# Altium integrated library NSC LDO.IntLib: 1228 symbols (part 27 of 28)
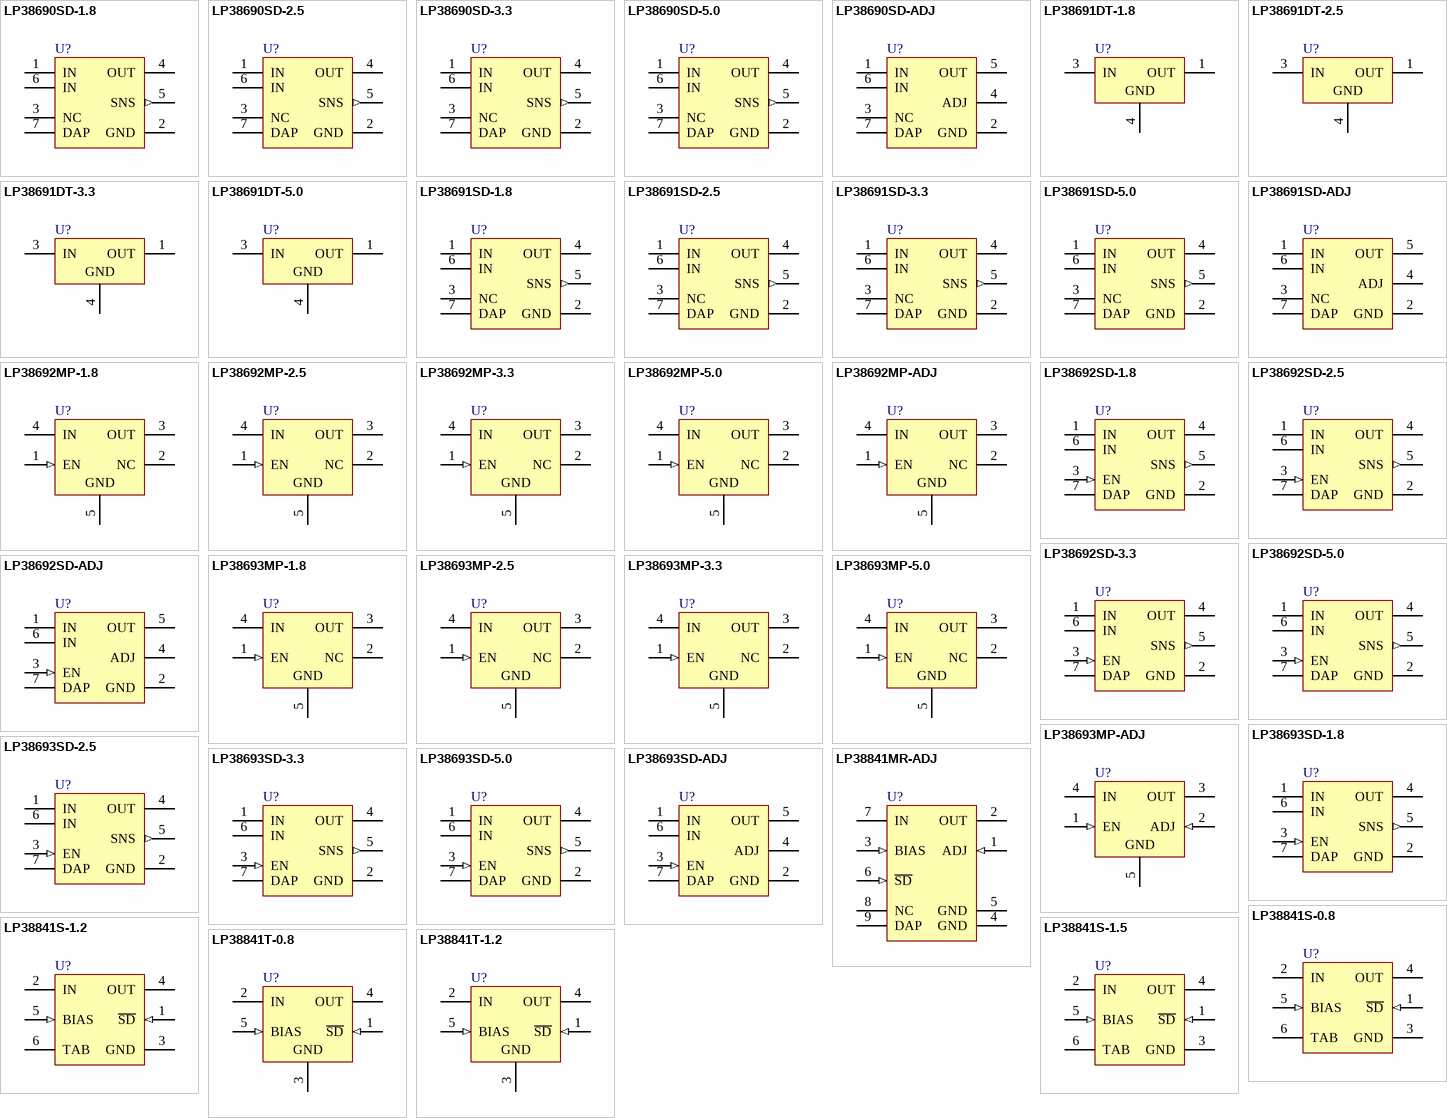
[diagram p56: symbols LP38690SD-1.8 to LP38841T-1.2]

## LP38691DT-3.3
designator U?
500mA Low Dropout CMOS Linear Regulators; PartNumber: LP38691DT-3.3; Manufacturer: National Semiconductor; CompType: LDO IC; PackageTopMarking: NSUZXYTT*LP38691*DT-3.3; PowerWise: Y; Published: 4-Dec-2008; DatasheetVersion: Sep-2005; PackageVersion: revC, Apr-2003; PackageReference: TD03B; Publisher: Altium Limited; PackageDescription: TO252, Molded, Jedec, 6.8 x 6.10 x 2.30mm Body, 3 Lead, 2.28mm Pitch, Surface Mount; RoHS: Y; PinCount: 3; DigiKeyPartNumber: LP38691DT-3.3-ND; Code_JEDEC: TO-252-AA; ComponentLink1Description: LP38691 Datasheet; ComponentLink1URL: http://www.national.com/ds/LP/LP38691.pdf; ComponentLink2Description: LP38691 Web Page; ComponentLink2URL: http://www.national.com/pf/LP/LP38691.html; ComponentLink3Description: TD03B Package Page; ComponentLink3URL: http://www.national.com/packaging/folders/td03b.html
footprint TD03B_N (D-PAK, 4-Leads, Body 6.1x6.6mm, Pitch 2.29mm, Lead Span 9.7mm, IPC Medium Density)
footprint TD03B_L (D-PAK, 4-Leads, Body 6.1x6.6mm, Pitch 2.29mm, Lead Span 9.7mm, IPC High Density)
footprint TD03B_M (D-PAK, 4-Leads, Body 6.1x6.6mm, Pitch 2.29mm, Lead Span 9.7mm, IPC Low Density)
pins: 1 OUT (power), 3 IN (power), 4 GND (power)

## LP38691DT-5.0
designator U?
500mA Low Dropout CMOS Linear Regulators; PartNumber: LP38691DT-5.0; Manufacturer: National Semiconductor; CompType: LDO IC; PackageTopMarking: NSUZXYTT*LP38691*DT-5.0; PowerWise: Y; Published: 4-Dec-2008; DatasheetVersion: Sep-2005; PackageVersion: revC, Apr-2003; PackageReference: TD03B; Publisher: Altium Limited; PackageDescription: TO252, Molded, Jedec, 6.8 x 6.10 x 2.30mm Body, 3 Lead, 2.28mm Pitch, Surface Mount; RoHS: Y; PinCount: 3; DigiKeyPartNumber: LP38691DT-5.0-ND; Code_JEDEC: TO-252-AA; ComponentLink1Description: LP38691 Datasheet; ComponentLink1URL: http://www.national.com/ds/LP/LP38691.pdf; ComponentLink2Description: LP38691 Web Page; ComponentLink2URL: http://www.national.com/pf/LP/LP38691.html; ComponentLink3Description: TD03B Package Page; ComponentLink3URL: http://www.national.com/packaging/folders/td03b.html
footprint TD03B_N (D-PAK, 4-Leads, Body 6.1x6.6mm, Pitch 2.29mm, Lead Span 9.7mm, IPC Medium Density)
footprint TD03B_L (D-PAK, 4-Leads, Body 6.1x6.6mm, Pitch 2.29mm, Lead Span 9.7mm, IPC High Density)
footprint TD03B_M (D-PAK, 4-Leads, Body 6.1x6.6mm, Pitch 2.29mm, Lead Span 9.7mm, IPC Low Density)
pins: 1 OUT (power), 3 IN (power), 4 GND (power)

## LP38691SD-1.8
designator U?
500mA Low Dropout CMOS Linear Regulators; PartNumber: LP38691SD-1.8; Manufacturer: National Semiconductor; CompType: LDO IC; PackageTopMarking: ZXYTT*L118B; PowerWise: Y; Published: 4-Dec-2008; DatasheetVersion: Sep-2005; PackageVersion: revA, Jul-2003; PackageReference: SDE06A; Publisher: Altium Limited; PackageDescription: LLP, Plastic, Dual, 3 x 3 x 0.8mm Body, 6 Lead, 0.95mm Pitch, No Pullback; RoHS: Y; PinCount: 6; DigiKeyPartNumber: LP38691SD-1.8CT-ND; ComponentLink1Description: LP38691 Datasheet; ComponentLink1URL: http://www.national.com/ds/LP/LP38691.pdf; ComponentLink2Description: LP38691 Web Page; ComponentLink2URL: http://www.national.com/pf/LP/LP38691.html; ComponentLink3Description: SDE06A Package Page; ComponentLink3URL: http://www.national.com/packaging/folders/sde06a.html
footprint SDE06A_full (SON, 6-Leads, Body 3x3 mm, Pitch 0.95mm, Full Paste, NSC Recommended)
footprint SDE06A_quad (SON, 6-Leads, Body 3x3 mm, Pitch 0.95mm, Quad Paste, NSC Recommended)
pins: 1 IN (power), 2 GND (power), 3 NC, 4 OUT (power), 5 SNS (out), 6 IN (power), 7 DAP (power)

## LP38691SD-2.5
designator U?
500mA Low Dropout CMOS Linear Regulators; PartNumber: LP38691SD-2.5; Manufacturer: National Semiconductor; CompType: LDO IC; PackageTopMarking: ZXYTT*L119B; PowerWise: Y; Published: 4-Dec-2008; DatasheetVersion: Sep-2005; PackageVersion: revA, Jul-2003; PackageReference: SDE06A; Publisher: Altium Limited; PackageDescription: LLP, Plastic, Dual, 3 x 3 x 0.8mm Body, 6 Lead, 0.95mm Pitch, No Pullback; RoHS: Y; PinCount: 6; DigiKeyPartNumber: LP38691SD-2.5CT-ND; ComponentLink1Description: LP38691 Datasheet; ComponentLink1URL: http://www.national.com/ds/LP/LP38691.pdf; ComponentLink2Description: LP38691 Web Page; ComponentLink2URL: http://www.national.com/pf/LP/LP38691.html; ComponentLink3Description: SDE06A Package Page; ComponentLink3URL: http://www.national.com/packaging/folders/sde06a.html
footprint SDE06A_full (SON, 6-Leads, Body 3x3 mm, Pitch 0.95mm, Full Paste, NSC Recommended)
footprint SDE06A_quad (SON, 6-Leads, Body 3x3 mm, Pitch 0.95mm, Quad Paste, NSC Recommended)
pins: 1 IN (power), 2 GND (power), 3 NC, 4 OUT (power), 5 SNS (out), 6 IN (power), 7 DAP (power)

## LP38691SD-3.3
designator U?
500mA Low Dropout CMOS Linear Regulators; PartNumber: LP38691SD-3.3; Manufacturer: National Semiconductor; CompType: LDO IC; PackageTopMarking: ZXYTT*L120B; PowerWise: Y; Published: 4-Dec-2008; DatasheetVersion: Sep-2005; PackageVersion: revA, Jul-2003; PackageReference: SDE06A; Publisher: Altium Limited; PackageDescription: LLP, Plastic, Dual, 3 x 3 x 0.8mm Body, 6 Lead, 0.95mm Pitch, No Pullback; RoHS: Y; PinCount: 6; DigiKeyPartNumber: LP38691SD-3.3CT-ND; ComponentLink1Description: LP38691 Datasheet; ComponentLink1URL: http://www.national.com/ds/LP/LP38691.pdf; ComponentLink2Description: LP38691 Web Page; ComponentLink2URL: http://www.national.com/pf/LP/LP38691.html; ComponentLink3Description: SDE06A Package Page; ComponentLink3URL: http://www.national.com/packaging/folders/sde06a.html
footprint SDE06A_full (SON, 6-Leads, Body 3x3 mm, Pitch 0.95mm, Full Paste, NSC Recommended)
footprint SDE06A_quad (SON, 6-Leads, Body 3x3 mm, Pitch 0.95mm, Quad Paste, NSC Recommended)
pins: 1 IN (power), 2 GND (power), 3 NC, 4 OUT (power), 5 SNS (out), 6 IN (power), 7 DAP (power)

## LP38691SD-5.0
designator U?
500mA Low Dropout CMOS Linear Regulators; PartNumber: LP38691SD-5.0; Manufacturer: National Semiconductor; CompType: LDO IC; PackageTopMarking: ZXYTT*L121B; PowerWise: Y; Published: 4-Dec-2008; DatasheetVersion: Sep-2005; PackageVersion: revA, Jul-2003; PackageReference: SDE06A; Publisher: Altium Limited; PackageDescription: LLP, Plastic, Dual, 3 x 3 x 0.8mm Body, 6 Lead, 0.95mm Pitch, No Pullback; RoHS: O; PinCount: 6; DigiKeyPartNumber: LP38691SD-5.0CT-ND; ComponentLink1Description: LP38691 Datasheet; ComponentLink1URL: http://www.national.com/ds/LP/LP38691.pdf; ComponentLink2Description: LP38691 Web Page; ComponentLink2URL: http://www.national.com/pf/LP/LP38691.html; ComponentLink3Description: SDE06A Package Page; ComponentLink3URL: http://www.national.com/packaging/folders/sde06a.html
footprint SDE06A_full (SON, 6-Leads, Body 3x3 mm, Pitch 0.95mm, Full Paste, NSC Recommended)
footprint SDE06A_quad (SON, 6-Leads, Body 3x3 mm, Pitch 0.95mm, Quad Paste, NSC Recommended)
pins: 1 IN (power), 2 GND (power), 3 NC, 4 OUT (power), 5 SNS (out), 6 IN (power), 7 DAP (power)

## LP38691SD-ADJ
designator U?
500mA Low Dropout CMOS Linear Regulators; PartNumber: LP38691SD-ADJ; Manufacturer: National Semiconductor; CompType: LDO IC; PackageTopMarking: ZXYTT*L117B; PowerWise: Y; Published: 4-Dec-2008; DatasheetVersion: Sep-2005; PackageVersion: revA, Jul-2003; PackageReference: SDE06A; Publisher: Altium Limited; PackageDescription: LLP, Plastic, Dual, 3 x 3 x 0.8mm Body, 6 Lead, 0.95mm Pitch, No Pullback; RoHS: O; PinCount: 6; DigiKeyPartNumber: LP38691SD-ADJCT-ND; ComponentLink1Description: LP38691-ADJ Datasheet; ComponentLink1URL: http://www.national.com/ds/LP/LP38691-ADJ.pdf; ComponentLink2Description: LP38691-ADJ Web Page; ComponentLink2URL: http://www.national.com/pf/LP/LP38691-ADJ.html; ComponentLink3Description: SDE06A Package Page; ComponentLink3URL: http://www.national.com/packaging/folders/sde06a.html
footprint SDE06A_full (SON, 6-Leads, Body 3x3 mm, Pitch 0.95mm, Full Paste, NSC Recommended)
footprint SDE06A_quad (SON, 6-Leads, Body 3x3 mm, Pitch 0.95mm, Quad Paste, NSC Recommended)
pins: 1 IN (power), 2 GND (power), 3 NC, 4 ADJ, 5 OUT (power), 6 IN (power), 7 DAP (power)

## LP38692MP-1.8
designator U?
1A Low Dropout CMOS Linear Regulators; PartNumber: LP38692MP-1.8; Manufacturer: National Semiconductor; CompType: LDO IC; PackageTopMarking: XYTT*LJPB; PowerWise: Y; Published: 4-Dec-2008; DatasheetVersion: May-2005; PackageVersion: revA, Jan-2000; PackageReference: MP05A; Publisher: Altium Limited; PackageDescription: Moldec SOT-223, 6.50 x 3.56 x 1.6mm Body, 5 Lead, 1.5mm Pitch; RoHS: Y; PinCount: 5; DigiKeyPartNumber: LP38692MP-1.8CT-ND; Code_JEDEC: TO-261-AB; Code_IPC: SOT223-5; ComponentLink1Description: LP38692 Datasheet; ComponentLink1URL: http://www.national.com/ds/LP/LP38692.pdf; ComponentLink2Description: LP38692 Web Page; ComponentLink2URL: http://www.national.com/pf/LP/LP38692.html; ComponentLink3Description: MP05A Package Page; ComponentLink3URL: http://www.national.com/packaging/folders/mp05a.html
footprint MP05A_N (SOT223, 5-Leads, Body 6.5x3.5mm, Pitch 1.5mm, Lead Span 7mm, IPC Medium Density)
footprint MP05A_L (SOT223, 5-Leads, Body 6.5x3.5mm, Pitch 1.5mm, Lead Span 7mm, IPC High Density)
footprint MP05A_M (SOT223, 5-Leads, Body 6.5x3.5mm, Pitch 1.5mm, Lead Span 7mm, IPC Low Density)
pins: 1 EN (in), 2 NC, 3 OUT (power), 4 IN (power), 5 GND (power)

## LP38692MP-2.5
designator U?
1A Low Dropout CMOS Linear Regulators; PartNumber: LP38692MP-2.5; Manufacturer: National Semiconductor; CompType: LDO IC; PackageTopMarking: XYTT*LJRB; PowerWise: Y; Published: 4-Dec-2008; DatasheetVersion: May-2005; PackageVersion: revA, Jan-2000; PackageReference: MP05A; Publisher: Altium Limited; PackageDescription: Moldec SOT-223, 6.50 x 3.56 x 1.6mm Body, 5 Lead, 1.5mm Pitch; RoHS: O; PinCount: 5; DigiKeyPartNumber: LP38692MP-2.5CT-ND; Code_JEDEC: TO-261-AB; Code_IPC: SOT223-5; ComponentLink1Description: LP38692 Datasheet; ComponentLink1URL: http://www.national.com/ds/LP/LP38692.pdf; ComponentLink2Description: LP38692 Web Page; ComponentLink2URL: http://www.national.com/pf/LP/LP38692.html; ComponentLink3Description: MP05A Package Page; ComponentLink3URL: http://www.national.com/packaging/folders/mp05a.html
footprint MP05A_N (SOT223, 5-Leads, Body 6.5x3.5mm, Pitch 1.5mm, Lead Span 7mm, IPC Medium Density)
footprint MP05A_L (SOT223, 5-Leads, Body 6.5x3.5mm, Pitch 1.5mm, Lead Span 7mm, IPC High Density)
footprint MP05A_M (SOT223, 5-Leads, Body 6.5x3.5mm, Pitch 1.5mm, Lead Span 7mm, IPC Low Density)
pins: 1 EN (in), 2 NC, 3 OUT (power), 4 IN (power), 5 GND (power)

## LP38692MP-3.3
designator U?
1A Low Dropout CMOS Linear Regulators; PartNumber: LP38692MP-3.3; Manufacturer: National Semiconductor; CompType: LDO IC; PackageTopMarking: XYTT*LJSB; PowerWise: Y; Published: 4-Dec-2008; DatasheetVersion: May-2005; PackageVersion: revA, Jan-2000; PackageReference: MP05A; Publisher: Altium Limited; PackageDescription: Moldec SOT-223, 6.50 x 3.56 x 1.6mm Body, 5 Lead, 1.5mm Pitch; RoHS: Y; PinCount: 5; DigiKeyPartNumber: LP38692MP-3.3CT-ND; Code_JEDEC: TO-261-AB; Code_IPC: SOT223-5; ComponentLink1Description: LP38692 Datasheet; ComponentLink1URL: http://www.national.com/ds/LP/LP38692.pdf; ComponentLink2Description: LP38692 Web Page; ComponentLink2URL: http://www.national.com/pf/LP/LP38692.html; ComponentLink3Description: MP05A Package Page; ComponentLink3URL: http://www.national.com/packaging/folders/mp05a.html
footprint MP05A_N (SOT223, 5-Leads, Body 6.5x3.5mm, Pitch 1.5mm, Lead Span 7mm, IPC Medium Density)
footprint MP05A_L (SOT223, 5-Leads, Body 6.5x3.5mm, Pitch 1.5mm, Lead Span 7mm, IPC High Density)
footprint MP05A_M (SOT223, 5-Leads, Body 6.5x3.5mm, Pitch 1.5mm, Lead Span 7mm, IPC Low Density)
pins: 1 EN (in), 2 NC, 3 OUT (power), 4 IN (power), 5 GND (power)

## LP38692MP-5.0
designator U?
1A Low Dropout CMOS Linear Regulators; PartNumber: LP38692MP-5.0; Manufacturer: National Semiconductor; CompType: LDO IC; PackageTopMarking: XYTT*LJTB; PowerWise: Y; Published: 4-Dec-2008; DatasheetVersion: May-2005; PackageVersion: revA, Jan-2000; PackageReference: MP05A; Publisher: Altium Limited; PackageDescription: Moldec SOT-223, 6.50 x 3.56 x 1.6mm Body, 5 Lead, 1.5mm Pitch; RoHS: O; PinCount: 5; DigiKeyPartNumber: LP38692MP-5.0CT-ND; Code_JEDEC: TO-261-AB; Code_IPC: SOT223-5; ComponentLink1Description: LP38692 Datasheet; ComponentLink1URL: http://www.national.com/ds/LP/LP38692.pdf; ComponentLink2Description: LP38692 Web Page; ComponentLink2URL: http://www.national.com/pf/LP/LP38692.html; ComponentLink3Description: MP05A Package Page; ComponentLink3URL: http://www.national.com/packaging/folders/mp05a.html
footprint MP05A_N (SOT223, 5-Leads, Body 6.5x3.5mm, Pitch 1.5mm, Lead Span 7mm, IPC Medium Density)
footprint MP05A_L (SOT223, 5-Leads, Body 6.5x3.5mm, Pitch 1.5mm, Lead Span 7mm, IPC High Density)
footprint MP05A_M (SOT223, 5-Leads, Body 6.5x3.5mm, Pitch 1.5mm, Lead Span 7mm, IPC Low Density)
pins: 1 EN (in), 2 NC, 3 OUT (power), 4 IN (power), 5 GND (power)

## LP38692MP-ADJ
designator U?
1A Low Dropout CMOS Linear Regulators; PartNumber: LP38692MP-ADJ; Manufacturer: National Semiconductor; CompType: LDO IC; PackageTopMarking: XYTT*LJNB; PowerWise: Y; Published: 4-Dec-2008; DatasheetVersion: Jan-2005; PackageVersion: revA, Jan-2000; PackageReference: MP05A; Publisher: Altium Limited; PackageDescription: Moldec SOT-223, 6.50 x 3.56 x 1.6mm Body, 5 Lead, 1.5mm Pitch; RoHS: Y; PinCount: 5; DigiKeyPartNumber: LP38692MP-ADJCT-ND; Code_JEDEC: TO-261-AB; Code_IPC: SOT223-5; ComponentLink1Description: LP38692-ADJ Datasheet; ComponentLink1URL: http://www.national.com/ds/LP/LP38692-ADJ.pdf; ComponentLink2Description: LP38692-ADJ Web Page; ComponentLink2URL: http://www.national.com/pf/LP/LP38692-ADJ.html; ComponentLink3Description: MP05A Package Page; ComponentLink3URL: http://www.national.com/packaging/folders/mp05a.html
footprint MP05A_N (SOT223, 5-Leads, Body 6.5x3.5mm, Pitch 1.5mm, Lead Span 7mm, IPC Medium Density)
footprint MP05A_L (SOT223, 5-Leads, Body 6.5x3.5mm, Pitch 1.5mm, Lead Span 7mm, IPC High Density)
footprint MP05A_M (SOT223, 5-Leads, Body 6.5x3.5mm, Pitch 1.5mm, Lead Span 7mm, IPC Low Density)
pins: 1 EN (in), 2 NC, 3 OUT (power), 4 IN (power), 5 GND (power)

## LP38692SD-1.8
designator U?
1A Low Dropout CMOS Linear Regulators; PartNumber: LP38692SD-1.8; Manufacturer: National Semiconductor; CompType: LDO IC; PackageTopMarking: ZXYTT*L123B; PowerWise: Y; Published: 4-Dec-2008; DatasheetVersion: May-2005; PackageVersion: revA, Jul-2003; PackageReference: SDE06A; Publisher: Altium Limited; PackageDescription: LLP, Plastic, Dual, 3 x 3 x 0.8mm Body, 6 Lead, 0.95mm Pitch, No Pullback; RoHS: Y; PinCount: 6; DigiKeyPartNumber: LP38692SD-1.8CT-ND; ComponentLink1Description: LP38692 Datasheet; ComponentLink1URL: http://www.national.com/ds/LP/LP38692.pdf; ComponentLink2Description: LP38692 Web Page; ComponentLink2URL: http://www.national.com/pf/LP/LP38692.html; ComponentLink3Description: SDE06A Package Page; ComponentLink3URL: http://www.national.com/packaging/folders/sde06a.html
footprint SDE06A_full (SON, 6-Leads, Body 3x3 mm, Pitch 0.95mm, Full Paste, NSC Recommended)
footprint SDE06A_quad (SON, 6-Leads, Body 3x3 mm, Pitch 0.95mm, Quad Paste, NSC Recommended)
pins: 1 IN (power), 2 GND (power), 3 EN (in), 4 OUT (power), 5 SNS (out), 6 IN (power), 7 DAP (power)

## LP38692SD-2.5
designator U?
1A Low Dropout CMOS Linear Regulators; PartNumber: LP38692SD-2.5; Manufacturer: National Semiconductor; CompType: LDO IC; PackageTopMarking: ZXYTT*L124B; PowerWise: Y; Published: 4-Dec-2008; DatasheetVersion: May-2005; PackageVersion: revA, Jul-2003; PackageReference: SDE06A; Publisher: Altium Limited; PackageDescription: LLP, Plastic, Dual, 3 x 3 x 0.8mm Body, 6 Lead, 0.95mm Pitch, No Pullback; RoHS: Y; PinCount: 6; DigiKeyPartNumber: LP38692SD-2.5CT-ND; ComponentLink1Description: LP38692 Datasheet; ComponentLink1URL: http://www.national.com/ds/LP/LP38692.pdf; ComponentLink2Description: LP38692 Web Page; ComponentLink2URL: http://www.national.com/pf/LP/LP38692.html; ComponentLink3Description: SDE06A Package Page; ComponentLink3URL: http://www.national.com/packaging/folders/sde06a.html
footprint SDE06A_full (SON, 6-Leads, Body 3x3 mm, Pitch 0.95mm, Full Paste, NSC Recommended)
footprint SDE06A_quad (SON, 6-Leads, Body 3x3 mm, Pitch 0.95mm, Quad Paste, NSC Recommended)
pins: 1 IN (power), 2 GND (power), 3 EN (in), 4 OUT (power), 5 SNS (out), 6 IN (power), 7 DAP (power)

## LP38692SD-3.3
designator U?
1A Low Dropout CMOS Linear Regulators; PartNumber: LP38692SD-3.3; Manufacturer: National Semiconductor; CompType: LDO IC; PackageTopMarking: ZXYTT*L125B; PowerWise: Y; Published: 4-Dec-2008; DatasheetVersion: May-2005; PackageVersion: revA, Jul-2003; PackageReference: SDE06A; Publisher: Altium Limited; PackageDescription: LLP, Plastic, Dual, 3 x 3 x 0.8mm Body, 6 Lead, 0.95mm Pitch, No Pullback; RoHS: Y; PinCount: 6; DigiKeyPartNumber: LP38692SD-3.3CT-ND; ComponentLink1Description: LP38692 Datasheet; ComponentLink1URL: http://www.national.com/ds/LP/LP38692.pdf; ComponentLink2Description: LP38692 Web Page; ComponentLink2URL: http://www.national.com/pf/LP/LP38692.html; ComponentLink3Description: SDE06A Package Page; ComponentLink3URL: http://www.national.com/packaging/folders/sde06a.html
footprint SDE06A_full (SON, 6-Leads, Body 3x3 mm, Pitch 0.95mm, Full Paste, NSC Recommended)
footprint SDE06A_quad (SON, 6-Leads, Body 3x3 mm, Pitch 0.95mm, Quad Paste, NSC Recommended)
pins: 1 IN (power), 2 GND (power), 3 EN (in), 4 OUT (power), 5 SNS (out), 6 IN (power), 7 DAP (power)

## LP38692SD-5.0
designator U?
1A Low Dropout CMOS Linear Regulators; PartNumber: LP38692SD-5.0; Manufacturer: National Semiconductor; CompType: LDO IC; PackageTopMarking: ZXYTT*L126B; PowerWise: Y; Published: 4-Dec-2008; DatasheetVersion: May-2005; PackageVersion: revA, Jul-2003; PackageReference: SDE06A; Publisher: Altium Limited; PackageDescription: LLP, Plastic, Dual, 3 x 3 x 0.8mm Body, 6 Lead, 0.95mm Pitch, No Pullback; RoHS: Y; PinCount: 6; DigiKeyPartNumber: LP38692SD-5.0CT-ND; ComponentLink1Description: LP38692 Datasheet; ComponentLink1URL: http://www.national.com/ds/LP/LP38692.pdf; ComponentLink2Description: LP38692 Web Page; ComponentLink2URL: http://www.national.com/pf/LP/LP38692.html; ComponentLink3Description: SDE06A Package Page; ComponentLink3URL: http://www.national.com/packaging/folders/sde06a.html
footprint SDE06A_full (SON, 6-Leads, Body 3x3 mm, Pitch 0.95mm, Full Paste, NSC Recommended)
footprint SDE06A_quad (SON, 6-Leads, Body 3x3 mm, Pitch 0.95mm, Quad Paste, NSC Recommended)
pins: 1 IN (power), 2 GND (power), 3 EN (in), 4 OUT (power), 5 SNS (out), 6 IN (power), 7 DAP (power)

## LP38692SD-ADJ
designator U?
1A Low Dropout CMOS Linear Regulators; PartNumber: LP38692SD-ADJ; Manufacturer: National Semiconductor; CompType: LDO IC; PackageTopMarking: ZXYTT*L122B; PowerWise: Y; Published: 4-Dec-2008; DatasheetVersion: Jan-2005; PackageVersion: revA, Jul-2003; PackageReference: SDE06A; Publisher: Altium Limited; PackageDescription: LLP, Plastic, Dual, 3 x 3 x 0.8mm Body, 6 Lead, 0.95mm Pitch, No Pullback; RoHS: Y; PinCount: 6; DigiKeyPartNumber: LP38692SD-ADJCT-ND; ComponentLink1Description: LP38692-ADJ Datasheet; ComponentLink1URL: http://www.national.com/ds/LP/LP38692-ADJ.pdf; ComponentLink2Description: LP38692-ADJ Web Page; ComponentLink2URL: http://www.national.com/pf/LP/LP38692-ADJ.html; ComponentLink3Description: SDE06A Package Page; ComponentLink3URL: http://www.national.com/packaging/folders/sde06a.html
footprint SDE06A_full (SON, 6-Leads, Body 3x3 mm, Pitch 0.95mm, Full Paste, NSC Recommended)
footprint SDE06A_quad (SON, 6-Leads, Body 3x3 mm, Pitch 0.95mm, Quad Paste, NSC Recommended)
pins: 1 IN (power), 2 GND (power), 3 EN (in), 4 ADJ, 5 OUT (power), 6 IN (power), 7 DAP (power)

## LP38693MP-1.8
designator U?
500mA Low Dropout CMOS Linear Regulators; PartNumber: LP38693MP-1.8; Manufacturer: National Semiconductor; CompType: LDO IC; PackageTopMarking: XYTT*LJVB; PowerWise: Y; Published: 4-Dec-2008; DatasheetVersion: Sep-2005; PackageVersion: revA, Jan-2000; PackageReference: MP05A; Publisher: Altium Limited; PackageDescription: Moldec SOT-223, 6.50 x 3.56 x 1.6mm Body, 5 Lead, 1.5mm Pitch; RoHS: Y; PinCount: 5; DigiKeyPartNumber: LP38693MP-1.8CT-ND; Code_JEDEC: TO-261-AB; Code_IPC: SOT223-5; ComponentLink1Description: LP38693 Datasheet; ComponentLink1URL: http://www.national.com/ds/LP/LP38693.pdf; ComponentLink2Description: LP38693 Web Page; ComponentLink2URL: http://www.national.com/pf/LP/LP38693.html; ComponentLink3Description: MP05A Package Page; ComponentLink3URL: http://www.national.com/packaging/folders/mp05a.html
footprint MP05A_N (SOT223, 5-Leads, Body 6.5x3.5mm, Pitch 1.5mm, Lead Span 7mm, IPC Medium Density)
footprint MP05A_L (SOT223, 5-Leads, Body 6.5x3.5mm, Pitch 1.5mm, Lead Span 7mm, IPC High Density)
footprint MP05A_M (SOT223, 5-Leads, Body 6.5x3.5mm, Pitch 1.5mm, Lead Span 7mm, IPC Low Density)
pins: 1 EN (in), 2 NC, 3 OUT (power), 4 IN (power), 5 GND (power)

## LP38693MP-2.5
designator U?
500mA Low Dropout CMOS Linear Regulators; PartNumber: LP38693MP-2.5; Manufacturer: National Semiconductor; CompType: LDO IC; PackageTopMarking: XYTT*LJXB; PowerWise: Y; Published: 4-Dec-2008; DatasheetVersion: Sep-2005; PackageVersion: revA, Jan-2000; PackageReference: MP05A; Publisher: Altium Limited; PackageDescription: Moldec SOT-223, 6.50 x 3.56 x 1.6mm Body, 5 Lead, 1.5mm Pitch; RoHS: Y; PinCount: 5; DigiKeyPartNumber: LP38693MP-2.5CT-ND; Code_JEDEC: TO-261-AB; Code_IPC: SOT223-5; ComponentLink1Description: LP38693 Datasheet; ComponentLink1URL: http://www.national.com/ds/LP/LP38693.pdf; ComponentLink2Description: LP38693 Web Page; ComponentLink2URL: http://www.national.com/pf/LP/LP38693.html; ComponentLink3Description: MP05A Package Page; ComponentLink3URL: http://www.national.com/packaging/folders/mp05a.html
footprint MP05A_N (SOT223, 5-Leads, Body 6.5x3.5mm, Pitch 1.5mm, Lead Span 7mm, IPC Medium Density)
footprint MP05A_L (SOT223, 5-Leads, Body 6.5x3.5mm, Pitch 1.5mm, Lead Span 7mm, IPC High Density)
footprint MP05A_M (SOT223, 5-Leads, Body 6.5x3.5mm, Pitch 1.5mm, Lead Span 7mm, IPC Low Density)
pins: 1 EN (in), 2 NC, 3 OUT (power), 4 IN (power), 5 GND (power)

## LP38693MP-3.3
designator U?
500mA Low Dropout CMOS Linear Regulators; PartNumber: LP38693MP-3.3; Manufacturer: National Semiconductor; CompType: LDO IC; PackageTopMarking: XYTT*LJYB; PowerWise: Y; Published: 4-Dec-2008; DatasheetVersion: Sep-2005; PackageVersion: revA, Jan-2000; PackageReference: MP05A; Publisher: Altium Limited; PackageDescription: Moldec SOT-223, 6.50 x 3.56 x 1.6mm Body, 5 Lead, 1.5mm Pitch; RoHS: O; PinCount: 5; DigiKeyPartNumber: LP38693MP-3.3CT-ND; Code_JEDEC: TO-261-AB; Code_IPC: SOT223-5; ComponentLink1Description: LP38693 Datasheet; ComponentLink1URL: http://www.national.com/ds/LP/LP38693.pdf; ComponentLink2Description: LP38693 Web Page; ComponentLink2URL: http://www.national.com/pf/LP/LP38693.html; ComponentLink3Description: MP05A Package Page; ComponentLink3URL: http://www.national.com/packaging/folders/mp05a.html
footprint MP05A_N (SOT223, 5-Leads, Body 6.5x3.5mm, Pitch 1.5mm, Lead Span 7mm, IPC Medium Density)
footprint MP05A_L (SOT223, 5-Leads, Body 6.5x3.5mm, Pitch 1.5mm, Lead Span 7mm, IPC High Density)
footprint MP05A_M (SOT223, 5-Leads, Body 6.5x3.5mm, Pitch 1.5mm, Lead Span 7mm, IPC Low Density)
pins: 1 EN (in), 2 NC, 3 OUT (power), 4 IN (power), 5 GND (power)

## LP38693MP-5.0
designator U?
500mA Low Dropout CMOS Linear Regulators; PartNumber: LP38693MP-5.0; Manufacturer: National Semiconductor; CompType: LDO IC; PackageTopMarking: XYTT*LJZB; PowerWise: Y; Published: 4-Dec-2008; DatasheetVersion: Sep-2005; PackageVersion: revA, Jan-2000; PackageReference: MP05A; Publisher: Altium Limited; PackageDescription: Moldec SOT-223, 6.50 x 3.56 x 1.6mm Body, 5 Lead, 1.5mm Pitch; RoHS: Y; PinCount: 5; DigiKeyPartNumber: LP38693MP-5.0CT-ND; Code_JEDEC: TO-261-AB; Code_IPC: SOT223-5; ComponentLink1Description: LP38693 Datasheet; ComponentLink1URL: http://www.national.com/ds/LP/LP38693.pdf; ComponentLink2Description: LP38693 Web Page; ComponentLink2URL: http://www.national.com/pf/LP/LP38693.html; ComponentLink3Description: MP05A Package Page; ComponentLink3URL: http://www.national.com/packaging/folders/mp05a.html
footprint MP05A_N (SOT223, 5-Leads, Body 6.5x3.5mm, Pitch 1.5mm, Lead Span 7mm, IPC Medium Density)
footprint MP05A_L (SOT223, 5-Leads, Body 6.5x3.5mm, Pitch 1.5mm, Lead Span 7mm, IPC High Density)
footprint MP05A_M (SOT223, 5-Leads, Body 6.5x3.5mm, Pitch 1.5mm, Lead Span 7mm, IPC Low Density)
pins: 1 EN (in), 2 NC, 3 OUT (power), 4 IN (power), 5 GND (power)

## LP38693MP-ADJ
designator U?
500mA Low Dropout CMOS Linear Regulators; PartNumber: LP38693MP-ADJ; Manufacturer: National Semiconductor; CompType: LDO IC; PackageTopMarking: XYTT*LJUB; PowerWise: Y; Published: 4-Dec-2008; DatasheetVersion: Sep-2005; PackageVersion: revA, Jan-2000; PackageReference: MP05A; Publisher: Altium Limited; PackageDescription: Moldec SOT-223, 6.50 x 3.56 x 1.6mm Body, 5 Lead, 1.5mm Pitch; RoHS: O; PinCount: 5; DigiKeyPartNumber: LP38693MP-ADJCT-ND; Code_JEDEC: TO-261-AB; Code_IPC: SOT223-5; ComponentLink1Description: LP38693-ADJ Datasheet; ComponentLink1URL: http://www.national.com/ds/LP/LP38693-ADJ.pdf; ComponentLink2Description: LP38693-ADJ Web Page; ComponentLink2URL: http://www.national.com/pf/LP/LP38693-ADJ.html; ComponentLink3Description: MP05A Package Page; ComponentLink3URL: http://www.national.com/packaging/folders/mp05a.html
footprint MP05A_N (SOT223, 5-Leads, Body 6.5x3.5mm, Pitch 1.5mm, Lead Span 7mm, IPC Medium Density)
footprint MP05A_L (SOT223, 5-Leads, Body 6.5x3.5mm, Pitch 1.5mm, Lead Span 7mm, IPC High Density)
footprint MP05A_M (SOT223, 5-Leads, Body 6.5x3.5mm, Pitch 1.5mm, Lead Span 7mm, IPC Low Density)
pins: 1 EN (in), 2 ADJ (in), 3 OUT (power), 4 IN (power), 5 GND (power)

## LP38693SD-1.8
designator U?
500mA Low Dropout CMOS Linear Regulators; PartNumber: LP38693SD-1.8; Manufacturer: National Semiconductor; CompType: LDO IC; PackageTopMarking: ZXYTT*L128B; PowerWise: Y; Published: 4-Dec-2008; DatasheetVersion: Sep-2005; PackageVersion: revA, Jul-2003; PackageReference: SDE06A; Publisher: Altium Limited; PackageDescription: LLP, Plastic, Dual, 3 x 3 x 0.8mm Body, 6 Lead, 0.95mm Pitch, No Pullback; RoHS: Y; PinCount: 6; DigiKeyPartNumber: LP38693SD-1.8CT-ND; ComponentLink1Description: LP38693 Datasheet; ComponentLink1URL: http://www.national.com/ds/LP/LP38693.pdf; ComponentLink2Description: LP38693 Web Page; ComponentLink2URL: http://www.national.com/pf/LP/LP38693.html; ComponentLink3Description: SDE06A Package Page; ComponentLink3URL: http://www.national.com/packaging/folders/sde06a.html
footprint SDE06A_full (SON, 6-Leads, Body 3x3 mm, Pitch 0.95mm, Full Paste, NSC Recommended)
footprint SDE06A_quad (SON, 6-Leads, Body 3x3 mm, Pitch 0.95mm, Quad Paste, NSC Recommended)
pins: 1 IN (power), 2 GND (power), 3 EN (in), 4 OUT (power), 5 SNS (out), 6 IN (power), 7 DAP (power)

## LP38693SD-2.5
designator U?
500mA Low Dropout CMOS Linear Regulators; PartNumber: LP38693SD-2.5; Manufacturer: National Semiconductor; CompType: LDO IC; PackageTopMarking: ZXYTT*L129B; PowerWise: Y; Published: 4-Dec-2008; DatasheetVersion: Sep-2005; PackageVersion: revA, Jul-2003; PackageReference: SDE06A; Publisher: Altium Limited; PackageDescription: LLP, Plastic, Dual, 3 x 3 x 0.8mm Body, 6 Lead, 0.95mm Pitch, No Pullback; RoHS: Y; PinCount: 6; DigiKeyPartNumber: LP38693SD-2.5CT-ND; ComponentLink1Description: LP38693 Datasheet; ComponentLink1URL: http://www.national.com/ds/LP/LP38693.pdf; ComponentLink2Description: LP38693 Web Page; ComponentLink2URL: http://www.national.com/pf/LP/LP38693.html; ComponentLink3Description: SDE06A Package Page; ComponentLink3URL: http://www.national.com/packaging/folders/sde06a.html
footprint SDE06A_full (SON, 6-Leads, Body 3x3 mm, Pitch 0.95mm, Full Paste, NSC Recommended)
footprint SDE06A_quad (SON, 6-Leads, Body 3x3 mm, Pitch 0.95mm, Quad Paste, NSC Recommended)
pins: 1 IN (power), 2 GND (power), 3 EN (in), 4 OUT (power), 5 SNS (out), 6 IN (power), 7 DAP (power)

## LP38693SD-3.3
designator U?
500mA Low Dropout CMOS Linear Regulators; PartNumber: LP38693SD-3.3; Manufacturer: National Semiconductor; CompType: LDO IC; PackageTopMarking: ZXYTT*L130B; PowerWise: Y; Published: 4-Dec-2008; DatasheetVersion: Sep-2005; PackageVersion: revA, Jul-2003; PackageReference: SDE06A; Publisher: Altium Limited; PackageDescription: LLP, Plastic, Dual, 3 x 3 x 0.8mm Body, 6 Lead, 0.95mm Pitch, No Pullback; RoHS: Y; PinCount: 6; DigiKeyPartNumber: LP38693SD-3.3CT-ND; ComponentLink1Description: LP38693 Datasheet; ComponentLink1URL: http://www.national.com/ds/LP/LP38693.pdf; ComponentLink2Description: LP38693 Web Page; ComponentLink2URL: http://www.national.com/pf/LP/LP38693.html; ComponentLink3Description: SDE06A Package Page; ComponentLink3URL: http://www.national.com/packaging/folders/sde06a.html
footprint SDE06A_full (SON, 6-Leads, Body 3x3 mm, Pitch 0.95mm, Full Paste, NSC Recommended)
footprint SDE06A_quad (SON, 6-Leads, Body 3x3 mm, Pitch 0.95mm, Quad Paste, NSC Recommended)
pins: 1 IN (power), 2 GND (power), 3 EN (in), 4 OUT (power), 5 SNS (out), 6 IN (power), 7 DAP (power)

## LP38693SD-5.0
designator U?
500mA Low Dropout CMOS Linear Regulators; PartNumber: LP38693SD-5.0; Manufacturer: National Semiconductor; CompType: LDO IC; PackageTopMarking: ZXYTT*L131B; PowerWise: Y; Published: 4-Dec-2008; DatasheetVersion: Sep-2005; PackageVersion: revA, Jul-2003; PackageReference: SDE06A; Publisher: Altium Limited; PackageDescription: LLP, Plastic, Dual, 3 x 3 x 0.8mm Body, 6 Lead, 0.95mm Pitch, No Pullback; RoHS: O; PinCount: 6; DigiKeyPartNumber: LP38693SD-5.0CT-ND; ComponentLink1Description: LP38693 Datasheet; ComponentLink1URL: http://www.national.com/ds/LP/LP38693.pdf; ComponentLink2Description: LP38693 Web Page; ComponentLink2URL: http://www.national.com/pf/LP/LP38693.html; ComponentLink3Description: SDE06A Package Page; ComponentLink3URL: http://www.national.com/packaging/folders/sde06a.html
footprint SDE06A_full (SON, 6-Leads, Body 3x3 mm, Pitch 0.95mm, Full Paste, NSC Recommended)
footprint SDE06A_quad (SON, 6-Leads, Body 3x3 mm, Pitch 0.95mm, Quad Paste, NSC Recommended)
pins: 1 IN (power), 2 GND (power), 3 EN (in), 4 OUT (power), 5 SNS (out), 6 IN (power), 7 DAP (power)

## LP38693SD-ADJ
designator U?
500mA Low Dropout CMOS Linear Regulators; PartNumber: LP38693SD-ADJ; Manufacturer: National Semiconductor; CompType: LDO IC; PackageTopMarking: ZXYTT*L127B; PowerWise: Y; Published: 4-Dec-2008; DatasheetVersion: Sep-2005; PackageVersion: revA, Jul-2003; PackageReference: SDE06A; Publisher: Altium Limited; PackageDescription: LLP, Plastic, Dual, 3 x 3 x 0.8mm Body, 6 Lead, 0.95mm Pitch, No Pullback; RoHS: O; PinCount: 6; DigiKeyPartNumber: LP38693SD-ADJCT-ND; ComponentLink1Description: LP38693-ADJ Datasheet; ComponentLink1URL: http://www.national.com/ds/LP/LP38693-ADJ.pdf; ComponentLink2Description: LP38693-ADJ Web Page; ComponentLink2URL: http://www.national.com/pf/LP/LP38693-ADJ.html; ComponentLink3Description: SDE06A Package Page; ComponentLink3URL: http://www.national.com/packaging/folders/sde06a.html
footprint SDE06A_full (SON, 6-Leads, Body 3x3 mm, Pitch 0.95mm, Full Paste, NSC Recommended)
footprint SDE06A_quad (SON, 6-Leads, Body 3x3 mm, Pitch 0.95mm, Quad Paste, NSC Recommended)
pins: 1 IN (power), 2 GND (power), 3 EN (in), 4 ADJ, 5 OUT (power), 6 IN (power), 7 DAP (power)

## LP38841MR-ADJ
designator U?
0.8A Ultra Low Dropout Linear Regulators; PartNumber: LP38841MR-ADJ; Manufacturer: National Semiconductor; CompType: LDO IC; PackageTopMarking: NSXYTT*L38841*MRADJ; PowerWise: N; Published: 4-Dec-2008; DatasheetVersion: Dec-2006; PackageVersion: revB, Dec-2007; PackageReference: MRA08B; Publisher: Altium Limited; PackageDescription: Molded, PSOP .193 x .154 x .058in, 8 Lead, .050in Pitch, Large DAP; RoHS: Y; PinCount: 8; DigiKeyPartNumber: LP38841MR-ADJ-ND; Code_JEDEC: MS-012-AA; ComponentLink1Description: LP38841-ADJ Datasheet; ComponentLink1URL: http://www.national.com/ds/LP/LP38841-ADJ.pdf; ComponentLink2Description: LP38841-ADJ Web Page; ComponentLink2URL: http://www.national.com/pf/LP/LP38841-ADJ.html; ComponentLink3Description: MRA08B Package Page; ComponentLink3URL: http://www.national.com/packaging/folders/mra08b.html
footprint MRA08B_N (SOIC, 8-Leads, Body 4.9x3.9mm, Pitch 1.27mm, Exposed Pad, IPC Medium Density)
footprint MRA08B_L (SOIC, 8-Leads, Body 4.9x3.9mm, Pitch 1.27mm, Exposed Pad, IPC High Density)
footprint MRA08B_M (SOIC, 8-Leads, Body 4.9x3.9mm, Pitch 1.27mm, Exposed Pad, IPC Low Density)
pins: 1 ADJ (in), 2 OUT (power), 3 BIAS (in), 4 GND (power), 5 GND (power), 6 ~{SD} (in), 7 IN (power), 8 NC, 9 DAP (power)

## LP38841S-0.8
designator U?
0.8A Ultra Low Dropout Linear Regulators; PartNumber: LP38841S-0.8; Manufacturer: National Semiconductor; CompType: LDO IC; PackageTopMarking: NSUZXYTTE#*LP38841S*-0.8; PowerWise: N; Published: 4-Dec-2008; DatasheetVersion: Sep-2006; PackageVersion: revD, Apr-2005; PackageReference: TS5B; Publisher: Altium Limited; PackageDescription: TO-263, Molded, .400 x .390 x .180in, 5 Lead, .067in Pitch, Surface Mount; RoHS: Y; PinCount: 5; DigiKeyPartNumber: LP38841S-0.8-ND; Code_JEDEC: MO-169-AB; ComponentLink1Description: LP38841 Datasheet; ComponentLink1URL: http://www.national.com/ds/LP/LP38841.pdf; ComponentLink2Description: LP38841 Web Page; ComponentLink2URL: http://www.national.com/pf/LP/LP38841.html; ComponentLink3Description: TS5B Package Page; ComponentLink3URL: http://www.national.com/packaging/folders/ts5b.html
footprint TS5B_N (D2-PAK, 6-Leads, Body 8.6x10.2mm, Pitch 1.7mm, Lead Span 14.1mm, IPC Medium Density)
footprint TS5B_L (D2-PAK, 6-Leads, Body 8.6x10.2mm, Pitch 1.7mm, Lead Span 14.1mm, IPC High Density)
footprint TS5B_M (D2-PAK, 6-Leads, Body 8.6x10.2mm, Pitch 1.7mm, Lead Span 14.1mm, IPC Low Density)
pins: 1 ~{SD} (in), 2 IN (power), 3 GND (power), 4 OUT (power), 5 BIAS (in), 6 TAB (power)

## LP38841S-1.2
designator U?
0.8A Ultra Low Dropout Linear Regulators; PartNumber: LP38841S-1.2; Manufacturer: National Semiconductor; CompType: LDO IC; PackageTopMarking: NSUZXYTTE#*LP38841S*-1.2; PowerWise: N; Published: 4-Dec-2008; DatasheetVersion: Sep-2006; PackageVersion: revD, Apr-2005; PackageReference: TS5B; Publisher: Altium Limited; PackageDescription: TO-263, Molded, .400 x .390 x .180in, 5 Lead, .067in Pitch, Surface Mount; RoHS: O; PinCount: 5; DigiKeyPartNumber: LP38841S-1.2-ND; Code_JEDEC: MO-169-AB; ComponentLink1Description: LP38841 Datasheet; ComponentLink1URL: http://www.national.com/ds/LP/LP38841.pdf; ComponentLink2Description: LP38841 Web Page; ComponentLink2URL: http://www.national.com/pf/LP/LP38841.html; ComponentLink3Description: TS5B Package Page; ComponentLink3URL: http://www.national.com/packaging/folders/ts5b.html
footprint TS5B_N (D2-PAK, 6-Leads, Body 8.6x10.2mm, Pitch 1.7mm, Lead Span 14.1mm, IPC Medium Density)
footprint TS5B_L (D2-PAK, 6-Leads, Body 8.6x10.2mm, Pitch 1.7mm, Lead Span 14.1mm, IPC High Density)
footprint TS5B_M (D2-PAK, 6-Leads, Body 8.6x10.2mm, Pitch 1.7mm, Lead Span 14.1mm, IPC Low Density)
pins: 1 ~{SD} (in), 2 IN (power), 3 GND (power), 4 OUT (power), 5 BIAS (in), 6 TAB (power)

## LP38841S-1.5
designator U?
0.8A Ultra Low Dropout Linear Regulators; PartNumber: LP38841S-1.5; Manufacturer: National Semiconductor; CompType: LDO IC; PackageTopMarking: NSUZXYTTE#*LP38841S*-1.5; PowerWise: N; Published: 4-Dec-2008; DatasheetVersion: Sep-2006; PackageVersion: revD, Apr-2005; PackageReference: TS5B; Publisher: Altium Limited; PackageDescription: TO-263, Molded, .400 x .390 x .180in, 5 Lead, .067in Pitch, Surface Mount; RoHS: O; PinCount: 5; DigiKeyPartNumber: LP38841S-1.5-ND; Code_JEDEC: MO-169-AB; ComponentLink1Description: LP38841 Datasheet; ComponentLink1URL: http://www.national.com/ds/LP/LP38841.pdf; ComponentLink2Description: LP38841 Web Page; ComponentLink2URL: http://www.national.com/pf/LP/LP38841.html; ComponentLink3Description: TS5B Package Page; ComponentLink3URL: http://www.national.com/packaging/folders/ts5b.html
footprint TS5B_N (D2-PAK, 6-Leads, Body 8.6x10.2mm, Pitch 1.7mm, Lead Span 14.1mm, IPC Medium Density)
footprint TS5B_L (D2-PAK, 6-Leads, Body 8.6x10.2mm, Pitch 1.7mm, Lead Span 14.1mm, IPC High Density)
footprint TS5B_M (D2-PAK, 6-Leads, Body 8.6x10.2mm, Pitch 1.7mm, Lead Span 14.1mm, IPC Low Density)
pins: 1 ~{SD} (in), 2 IN (power), 3 GND (power), 4 OUT (power), 5 BIAS (in), 6 TAB (power)

## LP38841T-0.8
designator U?
0.8A Ultra Low Dropout Linear Regulators; PartNumber: LP38841T-0.8; Manufacturer: National Semiconductor; CompType: LDO IC; PackageTopMarking: NSUZXYTTE#*LP38841T*-0.8; PowerWise: N; Published: 4-Dec-2008; DatasheetVersion: Sep-2006; PackageVersion: revJ, Jan-1992; PackageReference: T05A; Publisher: Altium Limited; PackageDescription: TO-220, Molded, 5 Lead, Straight; RoHS: Y; PinCount: 5; DigiKeyPartNumber: LP38841T-0.8-ND; Code_JEDEC: TO-220-AB; ComponentLink1Description: LP38841 Datasheet; ComponentLink1URL: http://www.national.com/ds/LP/LP38841.pdf; ComponentLink2Description: LP38841 Web Page; ComponentLink2URL: http://www.national.com/pf/LP/LP38841.html; ComponentLink3Description: T05A Package Page; ComponentLink3URL: http://www.national.com/packaging/folders/t05a.html
footprint T05A (TO, Thru-Hole, Vertical, Heatsink Mounted; 5 In-Line Leads; Pitch 1.70 mm)
pins: 1 ~{SD} (in), 2 IN (power), 3 GND (power), 4 OUT (power), 5 BIAS (in)

## LP38841T-1.2
designator U?
0.8A Ultra Low Dropout Linear Regulators; PartNumber: LP38841T-1.2; Manufacturer: National Semiconductor; CompType: LDO IC; PackageTopMarking: NSUZXYTTE#*LP38841T*-1.2; PowerWise: N; Published: 4-Dec-2008; DatasheetVersion: Sep-2006; PackageVersion: revJ, Jan-1992; PackageReference: T05A; Publisher: Altium Limited; PackageDescription: TO-220, Molded, 5 Lead, Straight; RoHS: Y; PinCount: 5; DigiKeyPartNumber: LP38841T-1.2-ND; Code_JEDEC: TO-220-AB; ComponentLink1Description: LP38841 Datasheet; ComponentLink1URL: http://www.national.com/ds/LP/LP38841.pdf; ComponentLink2Description: LP38841 Web Page; ComponentLink2URL: http://www.national.com/pf/LP/LP38841.html; ComponentLink3Description: T05A Package Page; ComponentLink3URL: http://www.national.com/packaging/folders/t05a.html
footprint T05A (TO, Thru-Hole, Vertical, Heatsink Mounted; 5 In-Line Leads; Pitch 1.70 mm)
pins: 1 ~{SD} (in), 2 IN (power), 3 GND (power), 4 OUT (power), 5 BIAS (in)

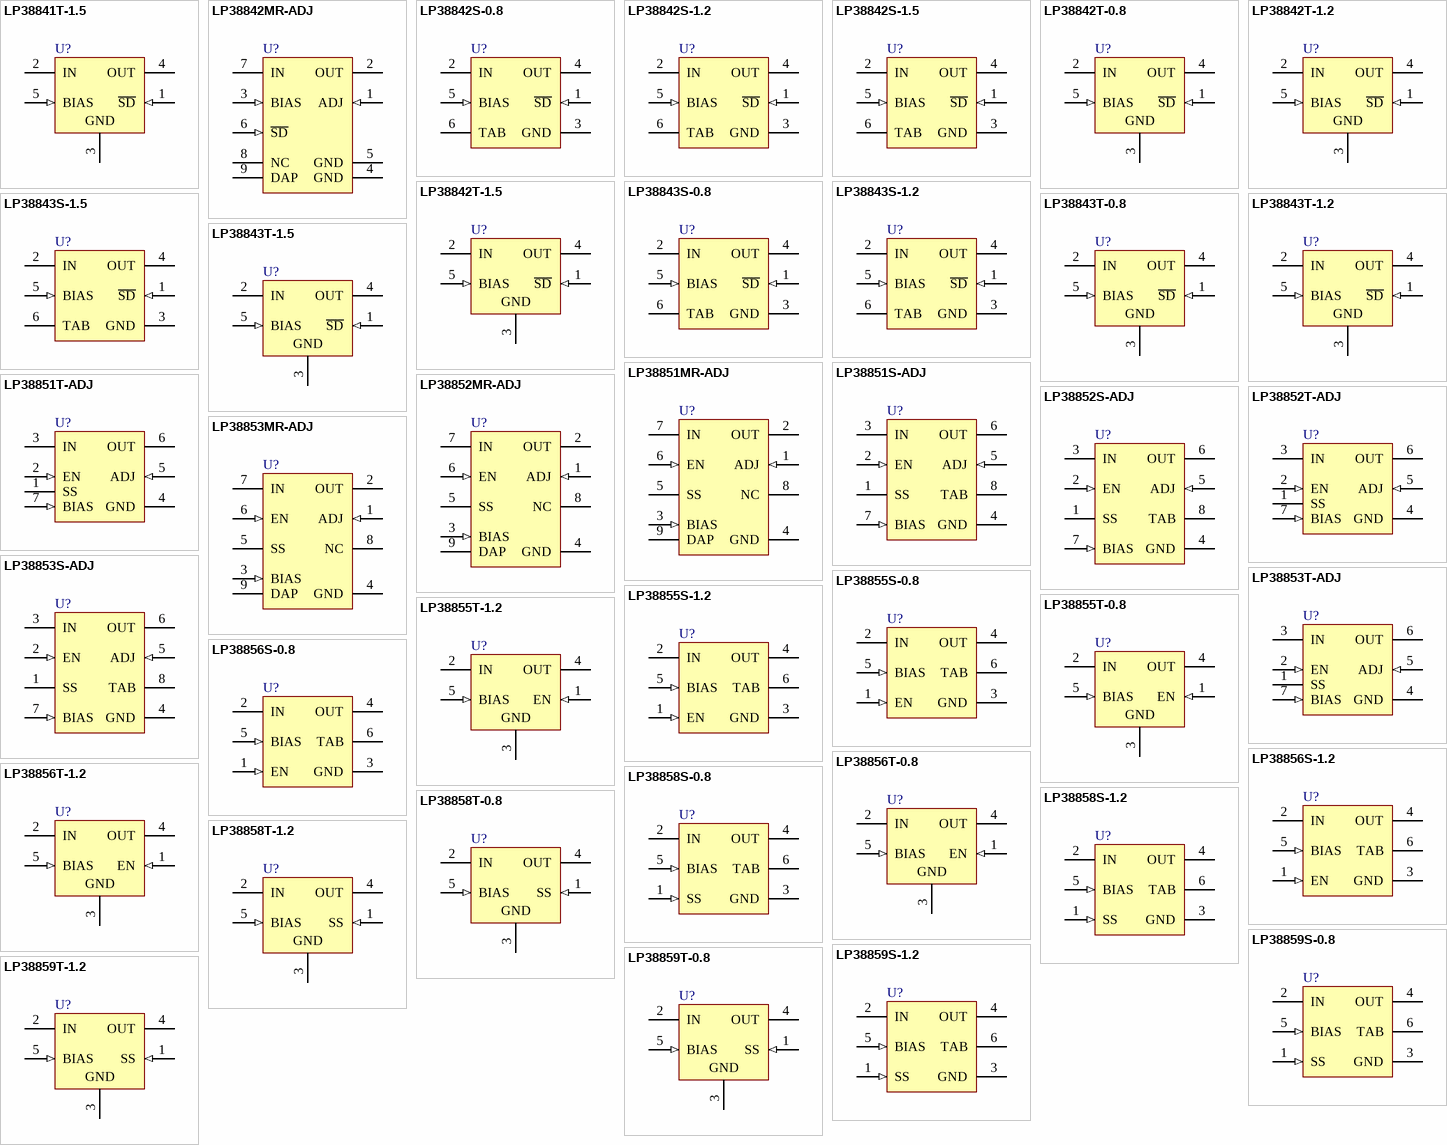
[diagram p30: symbols LP38841T-1.5 to LP38859T-1.2]

## LP38841T-1.5
designator U?
0.8A Ultra Low Dropout Linear Regulators; PartNumber: LP38841T-1.5; Manufacturer: National Semiconductor; CompType: LDO IC; PackageTopMarking: NSUZXYTTE#*LP38841T*-1.5; PowerWise: N; Published: 4-Dec-2008; DatasheetVersion: Sep-2006; PackageVersion: revJ, Jan-1992; PackageReference: T05A; Publisher: Altium Limited; PackageDescription: TO-220, Molded, 5 Lead, Straight; RoHS: Y; PinCount: 5; DigiKeyPartNumber: LP38841T-1.5-ND; Code_JEDEC: TO-220-AB; ComponentLink1Description: LP38841 Datasheet; ComponentLink1URL: http://www.national.com/ds/LP/LP38841.pdf; ComponentLink2Description: LP38841 Web Page; ComponentLink2URL: http://www.national.com/pf/LP/LP38841.html; ComponentLink3Description: T05A Package Page; ComponentLink3URL: http://www.national.com/packaging/folders/t05a.html
footprint T05A (TO, Thru-Hole, Vertical, Heatsink Mounted; 5 In-Line Leads; Pitch 1.70 mm)
pins: 1 ~{SD} (in), 2 IN (power), 3 GND (power), 4 OUT (power), 5 BIAS (in)

## LP38842MR-ADJ
designator U?
1.5A Ultra Low Dropout Linear Regulators; PartNumber: LP38842MR-ADJ; Manufacturer: National Semiconductor; CompType: LDO IC; PackageTopMarking: NSXYTT*L38842*MRADJ; PowerWise: N; Published: 4-Dec-2008; DatasheetVersion: Feb-2005; PackageVersion: revB, Dec-2007; PackageReference: MRA08B; Publisher: Altium Limited; PackageDescription: Molded, PSOP .193 x .154 x .058in, 8 Lead, .050in Pitch, Large DAP; RoHS: Y; PinCount: 8; DigiKeyPartNumber: LP38842MR-ADJ-ND; Code_JEDEC: MS-012-AA; ComponentLink1Description: LP38842-ADJ Datasheet; ComponentLink1URL: http://www.national.com/ds/LP/LP38842-ADJ.pdf; ComponentLink2Description: LP38842-ADJ Web Page; ComponentLink2URL: http://www.national.com/pf/LP/LP38842-ADJ.html; ComponentLink3Description: MRA08B Package Page; ComponentLink3URL: http://www.national.com/packaging/folders/mra08b.html
footprint MRA08B_N (SOIC, 8-Leads, Body 4.9x3.9mm, Pitch 1.27mm, Exposed Pad, IPC Medium Density)
footprint MRA08B_L (SOIC, 8-Leads, Body 4.9x3.9mm, Pitch 1.27mm, Exposed Pad, IPC High Density)
footprint MRA08B_M (SOIC, 8-Leads, Body 4.9x3.9mm, Pitch 1.27mm, Exposed Pad, IPC Low Density)
pins: 1 ADJ (in), 2 OUT (power), 3 BIAS (in), 4 GND (power), 5 GND (power), 6 ~{SD} (in), 7 IN (power), 8 NC, 9 DAP (power)

## LP38842S-0.8
designator U?
1.5A Ultra Low Dropout Linear Regulators; PartNumber: LP38842S-0.8; Manufacturer: National Semiconductor; CompType: LDO IC; PackageTopMarking: NSUZXYTTE#*LP38842S*-0.8; PowerWise: N; Published: 4-Dec-2008; DatasheetVersion: Sep-2006; PackageVersion: revD, Apr-2005; PackageReference: TS5B; Publisher: Altium Limited; PackageDescription: TO-263, Molded, .400 x .390 x .180in, 5 Lead, .067in Pitch, Surface Mount; RoHS: Y; PinCount: 5; DigiKeyPartNumber: LP38842S-0.8-ND; Code_JEDEC: MO-169-AB; ComponentLink1Description: LP38842 Datasheet; ComponentLink1URL: http://www.national.com/ds/LP/LP38842.pdf; ComponentLink2Description: LP38842 Web Page; ComponentLink2URL: http://www.national.com/pf/LP/LP38842.html; ComponentLink3Description: TS5B Package Page; ComponentLink3URL: http://www.national.com/packaging/folders/ts5b.html
footprint TS5B_N (D2-PAK, 6-Leads, Body 8.6x10.2mm, Pitch 1.7mm, Lead Span 14.1mm, IPC Medium Density)
footprint TS5B_L (D2-PAK, 6-Leads, Body 8.6x10.2mm, Pitch 1.7mm, Lead Span 14.1mm, IPC High Density)
footprint TS5B_M (D2-PAK, 6-Leads, Body 8.6x10.2mm, Pitch 1.7mm, Lead Span 14.1mm, IPC Low Density)
pins: 1 ~{SD} (in), 2 IN (power), 3 GND (power), 4 OUT (power), 5 BIAS (in), 6 TAB (power)

## LP38842S-1.2
designator U?
1.5A Ultra Low Dropout Linear Regulators; PartNumber: LP38842S-1.2; Manufacturer: National Semiconductor; CompType: LDO IC; PackageTopMarking: NSUZXYTTE#*LP38842S*-1.2; PowerWise: N; Published: 4-Dec-2008; DatasheetVersion: Sep-2006; PackageVersion: revD, Apr-2005; PackageReference: TS5B; Publisher: Altium Limited; PackageDescription: TO-263, Molded, .400 x .390 x .180in, 5 Lead, .067in Pitch, Surface Mount; RoHS: Y; PinCount: 5; DigiKeyPartNumber: LP38842S-1.2-ND; Code_JEDEC: MO-169-AB; ComponentLink1Description: LP38842 Datasheet; ComponentLink1URL: http://www.national.com/ds/LP/LP38842.pdf; ComponentLink2Description: LP38842 Web Page; ComponentLink2URL: http://www.national.com/pf/LP/LP38842.html; ComponentLink3Description: TS5B Package Page; ComponentLink3URL: http://www.national.com/packaging/folders/ts5b.html
footprint TS5B_N (D2-PAK, 6-Leads, Body 8.6x10.2mm, Pitch 1.7mm, Lead Span 14.1mm, IPC Medium Density)
footprint TS5B_L (D2-PAK, 6-Leads, Body 8.6x10.2mm, Pitch 1.7mm, Lead Span 14.1mm, IPC High Density)
footprint TS5B_M (D2-PAK, 6-Leads, Body 8.6x10.2mm, Pitch 1.7mm, Lead Span 14.1mm, IPC Low Density)
pins: 1 ~{SD} (in), 2 IN (power), 3 GND (power), 4 OUT (power), 5 BIAS (in), 6 TAB (power)

## LP38842S-1.5
designator U?
1.5A Ultra Low Dropout Linear Regulators; PartNumber: LP38842S-1.5; Manufacturer: National Semiconductor; CompType: LDO IC; PackageTopMarking: NSUZXYTTE#*LP38842S*-1.5; PowerWise: N; Published: 4-Dec-2008; DatasheetVersion: Sep-2006; PackageVersion: revD, Apr-2005; PackageReference: TS5B; Publisher: Altium Limited; PackageDescription: TO-263, Molded, .400 x .390 x .180in, 5 Lead, .067in Pitch, Surface Mount; RoHS: Y; PinCount: 5; DigiKeyPartNumber: LP38842S-1.5-ND; Code_JEDEC: MO-169-AB; ComponentLink1Description: LP38842 Datasheet; ComponentLink1URL: http://www.national.com/ds/LP/LP38842.pdf; ComponentLink2Description: LP38842 Web Page; ComponentLink2URL: http://www.national.com/pf/LP/LP38842.html; ComponentLink3Description: TS5B Package Page; ComponentLink3URL: http://www.national.com/packaging/folders/ts5b.html
footprint TS5B_N (D2-PAK, 6-Leads, Body 8.6x10.2mm, Pitch 1.7mm, Lead Span 14.1mm, IPC Medium Density)
footprint TS5B_L (D2-PAK, 6-Leads, Body 8.6x10.2mm, Pitch 1.7mm, Lead Span 14.1mm, IPC High Density)
footprint TS5B_M (D2-PAK, 6-Leads, Body 8.6x10.2mm, Pitch 1.7mm, Lead Span 14.1mm, IPC Low Density)
pins: 1 ~{SD} (in), 2 IN (power), 3 GND (power), 4 OUT (power), 5 BIAS (in), 6 TAB (power)

## LP38842T-0.8
designator U?
1.5A Ultra Low Dropout Linear Regulators; PartNumber: LP38842T-0.8; Manufacturer: National Semiconductor; CompType: LDO IC; PackageTopMarking: NSUZXYTTE#*LP38842T*-0.8; PowerWise: N; Published: 4-Dec-2008; DatasheetVersion: Sep-2006; PackageVersion: revJ, Jan-1992; PackageReference: T05A; Publisher: Altium Limited; PackageDescription: TO-220, Molded, 5 Lead, Straight; RoHS: Y; PinCount: 5; DigiKeyPartNumber: LP38842T-0.8-ND; Code_JEDEC: TO-220-AB; ComponentLink1Description: LP38842 Datasheet; ComponentLink1URL: http://www.national.com/ds/LP/LP38842.pdf; ComponentLink2Description: LP38842 Web Page; ComponentLink2URL: http://www.national.com/pf/LP/LP38842.html; ComponentLink3Description: T05A Package Page; ComponentLink3URL: http://www.national.com/packaging/folders/t05a.html
footprint T05A (TO, Thru-Hole, Vertical, Heatsink Mounted; 5 In-Line Leads; Pitch 1.70 mm)
pins: 1 ~{SD} (in), 2 IN (power), 3 GND (power), 4 OUT (power), 5 BIAS (in)

## LP38842T-1.2
designator U?
1.5A Ultra Low Dropout Linear Regulators; PartNumber: LP38842T-1.2; Manufacturer: National Semiconductor; CompType: LDO IC; PackageTopMarking: NSUZXYTTE#*LP38842T*-1.2; PowerWise: N; Published: 4-Dec-2008; DatasheetVersion: Sep-2006; PackageVersion: revJ, Jan-1992; PackageReference: T05A; Publisher: Altium Limited; PackageDescription: TO-220, Molded, 5 Lead, Straight; RoHS: Y; PinCount: 5; DigiKeyPartNumber: LP38842T-1.2-ND; Code_JEDEC: TO-220-AB; ComponentLink1Description: LP38842 Datasheet; ComponentLink1URL: http://www.national.com/ds/LP/LP38842.pdf; ComponentLink2Description: LP38842 Web Page; ComponentLink2URL: http://www.national.com/pf/LP/LP38842.html; ComponentLink3Description: T05A Package Page; ComponentLink3URL: http://www.national.com/packaging/folders/t05a.html
footprint T05A (TO, Thru-Hole, Vertical, Heatsink Mounted; 5 In-Line Leads; Pitch 1.70 mm)
pins: 1 ~{SD} (in), 2 IN (power), 3 GND (power), 4 OUT (power), 5 BIAS (in)

## LP38842T-1.5
designator U?
1.5A Ultra Low Dropout Linear Regulators; PartNumber: LP38842T-1.5; Manufacturer: National Semiconductor; CompType: LDO IC; PackageTopMarking: NSUZXYTTE#*LP38842T*-1.5; PowerWise: N; Published: 4-Dec-2008; DatasheetVersion: Sep-2006; PackageVersion: revJ, Jan-1992; PackageReference: T05A; Publisher: Altium Limited; PackageDescription: TO-220, Molded, 5 Lead, Straight; RoHS: Y; PinCount: 5; DigiKeyPartNumber: LP38842T-1.5-ND; Code_JEDEC: TO-220-AB; ComponentLink1Description: LP38842 Datasheet; ComponentLink1URL: http://www.national.com/ds/LP/LP38842.pdf; ComponentLink2Description: LP38842 Web Page; ComponentLink2URL: http://www.national.com/pf/LP/LP38842.html; ComponentLink3Description: T05A Package Page; ComponentLink3URL: http://www.national.com/packaging/folders/t05a.html
footprint T05A (TO, Thru-Hole, Vertical, Heatsink Mounted; 5 In-Line Leads; Pitch 1.70 mm)
pins: 1 ~{SD} (in), 2 IN (power), 3 GND (power), 4 OUT (power), 5 BIAS (in)

## LP38843S-0.8
designator U?
3A Fast-Response Ultra Low Dropout Linear Regulators; PartNumber: LP38843S-0.8; Manufacturer: National Semiconductor; CompType: LDO IC; PackageTopMarking: NSUZXYTTE#*LP38843S*-0.8; PowerWise: N; Published: 4-Dec-2008; DatasheetVersion: Sep-2006; PackageVersion: revD, Apr-2005; PackageReference: TS5B; Publisher: Altium Limited; PackageDescription: TO-263, Molded, .400 x .390 x .180in, 5 Lead, .067in Pitch, Surface Mount; RoHS: Y; PinCount: 5; DigiKeyPartNumber: LP38843S-0.8-ND; Code_JEDEC: MO-169-AB; ComponentLink1Description: LP38843 Datasheet; ComponentLink1URL: http://www.national.com/ds/LP/LP38843.pdf; ComponentLink2Description: LP38843 Web Page; ComponentLink2URL: http://www.national.com/pf/LP/LP38843.html; ComponentLink3Description: TS5B Package Page; ComponentLink3URL: http://www.national.com/packaging/folders/ts5b.html
footprint TS5B_N (D2-PAK, 6-Leads, Body 8.6x10.2mm, Pitch 1.7mm, Lead Span 14.1mm, IPC Medium Density)
footprint TS5B_L (D2-PAK, 6-Leads, Body 8.6x10.2mm, Pitch 1.7mm, Lead Span 14.1mm, IPC High Density)
footprint TS5B_M (D2-PAK, 6-Leads, Body 8.6x10.2mm, Pitch 1.7mm, Lead Span 14.1mm, IPC Low Density)
pins: 1 ~{SD} (in), 2 IN (power), 3 GND (power), 4 OUT (power), 5 BIAS (in), 6 TAB (power)